# Altium schematic symbol library LAN9500.Schlib: 1 symbol
Pins are listed as number, name and electrical type; pins without a type are passive.

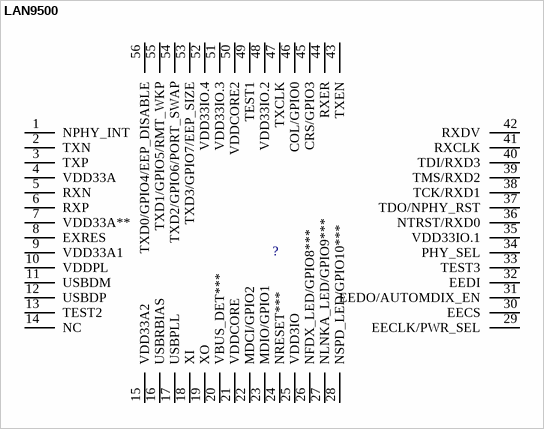
[diagram p0: symbol LAN9500]

## LAN9500
designator ?
footprint QFN56
pins: 1 NPHY_INT, 2 TXN, 3 TXP, 4 VDD33A, 5 RXN, 6 RXP, 7 VDD33A**, 8 EXRES, 9 VDD33A1, 10 VDDPL, 11 USBDM, 12 USBDP, 13 TEST2, 14 NC, 15 VDD33A2, 16 USBRBIAS, 17 USBPLL, 18 XI, 19 XO, 20 VBUS_DET***, 21 VDDCORE, 22 MDCI/GPIO2, 23 MDIO/GPIO1, 24 NRESET***, 25 VDD3IO, 26 NFDX_LED/GPIO8***, 27 NLNKA_LED/GPIO9***, 28 NSPD_LED/GPIO10***, 29 EECLK/PWR_SEL, 30 EECS, 31 EEDO/AUTOMDIX_EN, 32 EEDI, 33 TEST3, 34 PHY_SEL, 35 VDD33IO.1, 36 NTRST/RXD0, 37 TDO/NPHY_RST, 38 TCK/RXD1, 39 TMS/RXD2, 40 TDI/RXD3, 41 RXCLK, 42 RXDV, 43 TXEN, 44 RXER, 45 CRS/GPIO3, 46 COL/GPIO0, 47 TXCLK, 48 VDD33IO.2, 49 TEST1, 50 VDDCORE2, 51 VDD33IO.3, 52 VDD33IO.4, 53 TXD3/GPIO7/EEP_SIZE, 54 TXD2/GPIO6/PORT_SWAP, 55 TXD1/GPIO5/RMT_WKP, 56 TXD0/GPIO4/EEP_DISABLE